# Altium footprint library BarrelJack_PJ-028-SMT.PcbLib: 1 footprints
Each footprint in its own frame and in the unit in brackets; x right, y up, seen from the top. Pads: shape width x height; smd on the part's side, far side on the other; paste and mask are expansions set on the pad; w line width, h text height; cw(c..) or ccw(c..) is an arc to the next point about the centre after c.
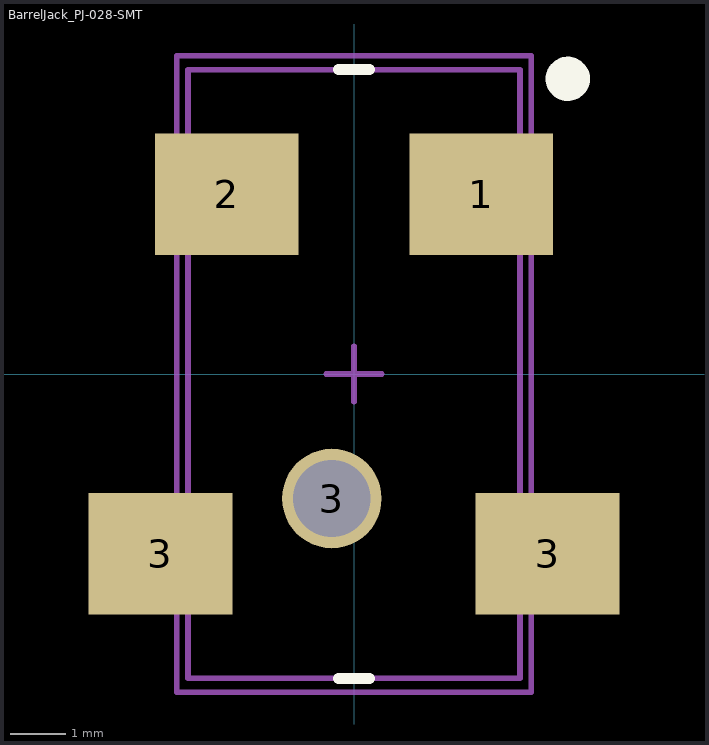
[diagram p0: the footprint, top view; thin cyan lines are the x and y axes]

## BarrelJack_PJ-028-SMT [mm]
height 4.3
pads (5):
  rect 2.6x2.2 smd: 1(2.3,3.25) 2(-2.3,3.25) 3(-3.5,-3.25) 3(3.5,-3.25)
  round 1.8 hole 1.4: 3(-0.4,-2.25)
Top Overlay:
  circle w0.4: c3.864,5.334 r0.2
  lines w0.2: -0.275,-5.5 0.275,-5.5 ; -0.275,5.5 0.275,5.5
Mechanical 13:
  lines w0.1: -3,-5.5 3,-5.5 3,5.5 -3,5.5 -3,-5.5
Mechanical 15:
  lines w0.1: -0.5,0 0.5,0 ; 0,-0.5 0,0.5 ; -3.2,-5.75 3.2,-5.75 3.2,5.75 -3.2,5.75 -3.2,-5.75
3D body: height 4.3, standoff 0, extent -3,-5.5 3,5.5